# Altium schematic symbol library Ethernet_IC.SchLib: 2 symbols
Pins are listed as number, name and electrical type; pins without a type are passive.

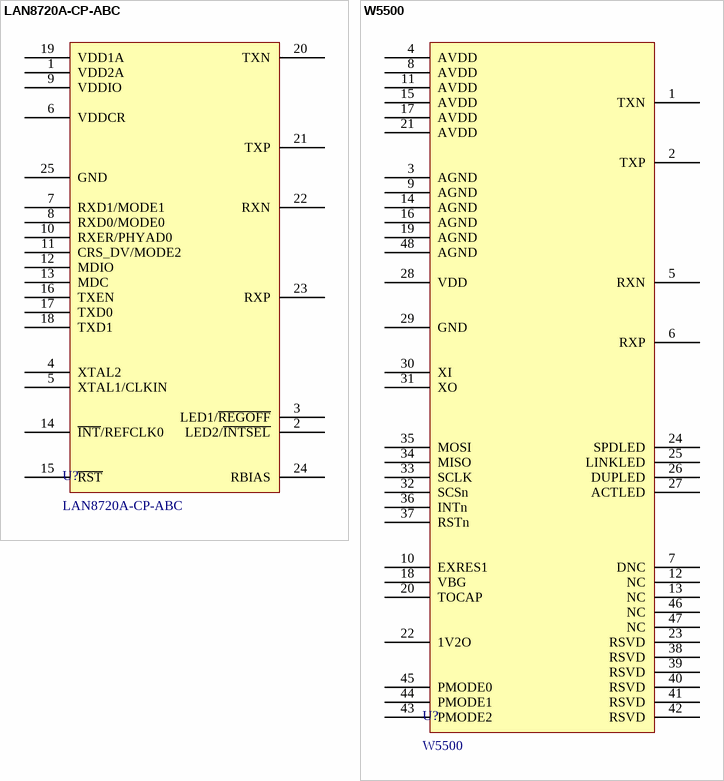
[diagram p0: symbols LAN8720A-CP-ABC to W5500]

## LAN8720A-CP-ABC
designator U?
Ethernet ICs Small Footprint RMII RMII 10/100 Ethernet; Manufacturer: Microchip Technology; Active status: Active; Pad count: 24; Supply Voltage - Max: 3.6 V; Supply Voltage - Min: 1.14 V; Protocol: RMII; Supplier 1 URL: https://www.mouser.com/ProductDetail/Microchip-Technology/LAN8720A-CP-ABC?qs=Gd3Cm49KlLPCUEGQe1b4LA%3D%3D; Supplier 2 URL: https://www.digikey.com/en/products/detail/microchip-technology/LAN8720A-CP-TR-ABC/9168867; Supplier 3 URL: https://www.thegioiic.com/lan8720a-ic-truyen-nhan-ethernet-24-qfn; Value: LAN8720A-CP-ABC; Manufacturer Part Number: LAN8720A-CP-ABC; Packaging: Tape and Reel; Supplier 1: Mouser; Supplier 1 Part Number: 579-LAN8720ACPABC; Supplier 2: Digi-Key; Supplier 2 Part Number: LAN8720A-CP-TR-ABCTR-ND; Supplier 3: thegioiic; Supplier 3 Part Number: N/A; Mount: SMD/SMT; Operating Temperature Max: + 85 C; Operating Temperature Min: - 40 C; Package / Case: SQFN-24; ComponentLink1Description: Datasheet; ComponentLink1URL: https://www.mouser.com/datasheet/2/268/00002165B-977427.pdf
footprint LAN8720A-CP-ABC (QFN, 24-Leads, Body 4.00x4.00mm, Pitch 0.50mm, Thermal Pad 2.50x2.50mm, IPC Medium Density)
pins: 1 VDD2A, 2 LED2/~{INTSEL}, 3 LED1/~{REGOFF}, 4 XTAL2, 5 XTAL1/CLKIN, 6 VDDCR, 7 RXD1/MODE1, 8 RXD0/MODE0, 9 VDDIO, 10 RXER/PHYAD0, 11 CRS_DV/MODE2, 12 MDIO, 13 MDC, 14 ~{INT}/REFCLK0, 15 ~{RST}, 16 TXEN, 17 TXD0, 18 TXD1, 19 VDD1A, 20 TXN, 21 TXP, 22 RXN, 23 RXP, 24 RBIAS, 25 GND

## W5500
designator U?
Ethernet ICs 3in1 Enet Controller TCP/IP +MAC+PHY; Manufacturer: WIZnet; Pad count: 48; Active status: Active; Protocol: SPI; Supply Voltage - Max: 3.63 V; Supply Voltage - Min: 2.97 V; Supplier 1 URL: https://www.mouser.com/ProductDetail/WIZnet/W5500?qs=2vh%252B45pPFtzthUpYPd4pqA%3D%3D; Supplier 2 URL: https://www.digikey.com/en/products/detail/wiznet/w5500/4425702; Supplier 3 URL: N/A; Value: W5500; Manufacturer Part Number: W5500; Packaging: Tape and Reel; Supplier 1: Mouser; Supplier 1 Part Number: 950-W5500; Supplier 2: Digi-Key; Supplier 2 Part Number: 1278-W5500CT-ND; Supplier 3: thegioiic; Supplier 3 Part Number: N/A; Mount: SMD/SMT; Operating Temperature Max: + 85 C; Operating Temperature Min: - 40 C; Package / Case: LQFP-48; ComponentLink1Description: Datasheet; ComponentLink1URL: https://www.mouser.com/datasheet/2/443/Wiznet_W5500_DS_1%200%205-1212109.pdf
footprint W5500 (TSQFP, 48-Leads, Body 7.00x7.00mm, Pitch 0.50mm, IPC Medium Density)
pins: 1 TXN, 2 TXP, 3 AGND, 4 AVDD, 5 RXN, 6 RXP, 7 DNC, 8 AVDD, 9 AGND, 10 EXRES1, 11 AVDD, 12 NC, 13 NC, 14 AGND, 15 AVDD, 16 AGND, 17 AVDD, 18 VBG, 19 AGND, 20 TOCAP, 21 AVDD, 22 1V2O, 23 RSVD, 24 SPDLED, 25 LINKLED, 26 DUPLED, 27 ACTLED, 28 VDD, 29 GND, 30 XI, 31 XO, 32 SCSn, 33 SCLK, 34 MISO, 35 MOSI, 36 INTn, 37 RSTn, 38 RSVD, 39 RSVD, 40 RSVD, 41 RSVD, 42 RSVD, 43 PMODE2, 44 PMODE1, 45 PMODE0, 46 NC, 47 NC, 48 AGND